# EAGLE library part PT5* (library df4iah_relay)
Miniature Relay SCHRACK 2 pole 12 A, 3 pole 10 A or 4 pole 6 A DC- or AC-coil Source: http://www.schrack.com/.. 5823.pdf Socked 78604 Source: http://www.schrack.com/.. 5836.pdf
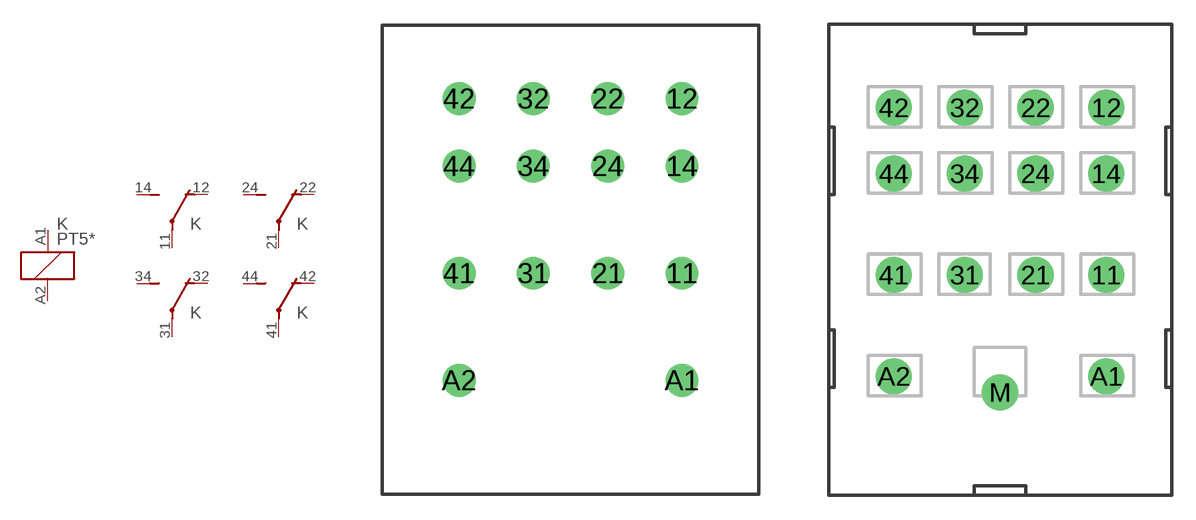
[diagram p116: symbol with the pads of PT-4; footprints PT-4, PT78604]

Designator prefix K; gates 1=K 2=U 3=U 4=U 5=U

## PT571506 (OC_FARNELL: unknown; OC_NEWARK: unknown), PT571512 (OC_FARNELL: unknown; OC_NEWARK: unknown), PT571524 (MF: FARNELL; MPN: PT571524; OC_FARNELL: 3072836; OC_NEWARK: 08J0830), PT571548 (OC_FARNELL: unknown; OC_NEWARK: unknown), PT571560 (OC_FARNELL: unknown; OC_NEWARK: unknown), PT571615 (MF: FARNELL; MPN: PT571615; OC_FARNELL: 3072990; OC_NEWARK: 85H0667), PT571730 (MF: FARNELL; MPN: PT571730; OC_FARNELL: 3073014; OC_NEWARK: 18J8266), PT571R06 (OC_FARNELL: unknown; OC_NEWARK: unknown), PT571R12 (OC_FARNELL: unknown; OC_NEWARK: unknown), PT571R24 (OC_FARNELL: unknown; OC_NEWARK: unknown), PT571R48 (OC_FARNELL: unknown; OC_NEWARK: unknown), PT571R60 (OC_FARNELL: unknown; OC_NEWARK: unknown), PT571S15 (OC_FARNELL: unknown; OC_NEWARK: unknown), PT571T30 (OC_FARNELL: unknown; OC_NEWARK: unknown), PT581506 (OC_FARNELL: unknown; OC_NEWARK: unknown), PT581512 (OC_FARNELL: unknown; OC_NEWARK: unknown), PT581524 (OC_FARNELL: unknown; OC_NEWARK: unknown), PT581548 (OC_FARNELL: unknown; OC_NEWARK: unknown), PT581560 (OC_FARNELL: unknown; OC_NEWARK: unknown), PT581615 (OC_FARNELL: unknown; OC_NEWARK: unknown), PT581730 (OC_FARNELL: unknown; OC_NEWARK: unknown), PT581R06 (OC_FARNELL: unknown; OC_NEWARK: unknown), PT581R12 (OC_FARNELL: unknown; OC_NEWARK: unknown), PT581R24 (OC_FARNELL: unknown; OC_NEWARK: unknown), PT581R48 (OC_FARNELL: unknown; OC_NEWARK: unknown), PT581R60 (OC_FARNELL: unknown; OC_NEWARK: unknown), PT581S15 (OC_FARNELL: unknown; OC_NEWARK: unknown), PT581T30 (OC_FARNELL: unknown; OC_NEWARK: unknown)  [PT-4]
11  2:P  pas
12  2:O  pas
14  2:S  pas
21  3:P  pas
22  3:O  pas
24  3:S  pas
31  4:P  pas
32  4:O  pas
34  4:S  pas
41  5:P  pas
42  5:O  pas
44  5:S  pas
A1  1:1  pas
A2  1:2  pas

## PT5-78604 (OC_FARNELL: unknown; OC_NEWARK: unknown)  [PT78604]
Pads as for PT-4

## Footprint PT-4 (pad centres in mm)
Miniature Relay SCHRACK 4 pole 6 A DC- or AC-coil Source: http://www.schrack.com/.. 5823.pdf
drill 1.3: 11 6.6,6.35; 12 6.6,16.7; 14 6.6,12.7; 21 2.2,6.35; 22 2.2,16.7; 24 2.2,12.7; 31 -2.2,6.35; 32 -2.2,16.7; 34 -2.2,12.7; 41 -6.6,6.35; 42 -6.6,16.7; 44 -6.6,12.7; A1 6.6,0; A2 -6.6,0

## Footprint PT78604 (pad centres in mm)
Accessories Miniature Relay PT SCHRACK Socket with PCB terminals 4 Pol. Source: http://www.schrack.com/.. 5836.pdf
drill 1.5: 11 6.6,6.3; 12 6.6,16.7; 14 6.6,12.6; 21 2.2,6.3; 22 2.2,16.7; 24 2.2,12.6; 31 -2.2,6.3; 32 -2.2,16.7; 34 -2.2,12.6; 41 -6.6,6.3; 42 -6.6,16.7; 44 -6.6,12.6; A1 6.6,0; A2 -6.6,0; M 0,-1